# Altium footprint library 5078R-100.PcbLib: 1 footprints
Each footprint in its own frame and in the unit in brackets; x right, y up, seen from the top. Pads: shape width x height; smd on the part's side, far side on the other; paste and mask are expansions set on the pad; w line width, h text height; cw(c..) or ccw(c..) is an arc to the next point about the centre after c.
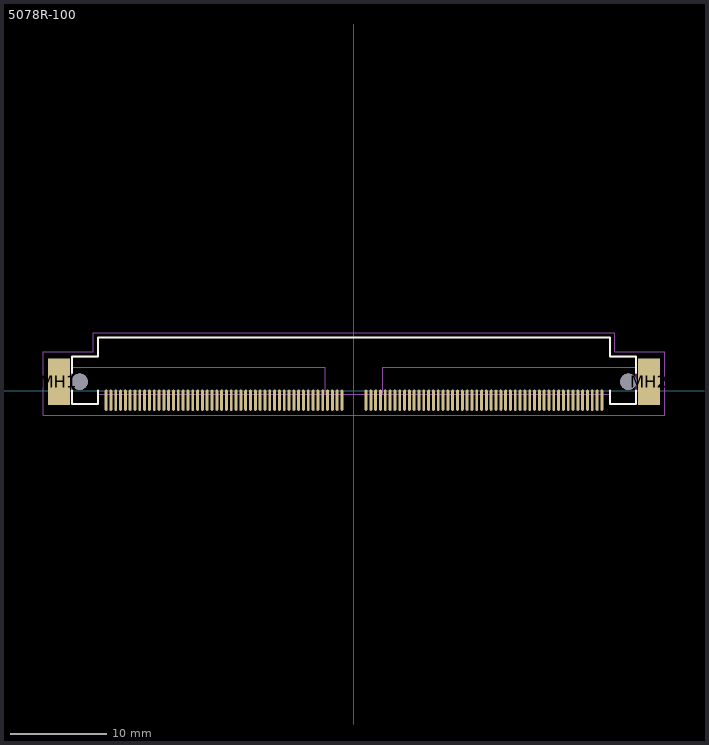
[diagram p0: the footprint, top view; thin cyan lines are the x and y axes]

## 5078R-100 [mm] "5078 Series Receptacle (29 5078 100 500 861+)"
height 5
pads (157):
  oval 0.3x2.2 smd: 1(-25.75,-0.962) 1(-25.75,-0.962) 2(-25.25,-0.962) 2(-25.25,-0.962) 3(-24.75,-0.962) 3(-24.75,-0.962) 4(-24.25,-0.962) 4(-24.25,-0.962) 5(-23.75,-0.962) 5(-23.75,-0.962) 6(-23.25,-0.962) 6(-23.25,-0.962) 7(-22.75,-0.962) 7(-22.75,-0.962) 8(-22.25,-0.962) 8(-22.25,-0.962) 9(-21.75,-0.962) 9(-21.75,-0.962) 10(-21.25,-0.962) 10(-21.25,-0.962) 11(-20.75,-0.962) 11(-20.75,-0.962) 12(-20.25,-0.962) 12(-20.25,-0.962) 13(-19.75,-0.962) 13(-19.75,-0.962) 14(-19.25,-0.962) 14(-19.25,-0.962) 15(-18.75,-0.962) 15(-18.75,-0.962) 16(-18.25,-0.962) 16(-18.25,-0.962) 17(-17.75,-0.962) 17(-17.75,-0.962) 18(-17.25,-0.962) 18(-17.25,-0.962) 19(-16.75,-0.962) 19(-16.75,-0.962) 20(-16.25,-0.962) 20(-16.25,-0.962) 21(-15.75,-0.962) 21(-15.75,-0.962) 22(-15.25,-0.962) 22(-15.25,-0.962) 23(-14.75,-0.962) 23(-14.75,-0.962) 24(-14.25,-0.962) 24(-14.25,-0.962) 25(-13.75,-0.962) 25(-13.75,-0.962) 26(-13.25,-0.962) 26(-13.25,-0.962) 27(-12.75,-0.962) 27(-12.75,-0.962) 28(-12.25,-0.962) 28(-12.25,-0.962) 29(-11.75,-0.962) 29(-11.75,-0.962) 30(-11.25,-0.962) 30(-11.25,-0.962) 31(-10.75,-0.962) 31(-10.75,-0.962) 32(-10.25,-0.962) 32(-10.25,-0.962) 33(-9.75,-0.962) 33(-9.75,-0.962) 34(-9.25,-0.962) 34(-9.25,-0.962) 35(-8.75,-0.962) 35(-8.75,-0.962) 36(-8.25,-0.962) 36(-8.25,-0.962) 37(-7.75,-0.962) 37(-7.75,-0.962) 38(-7.25,-0.962) 38(-7.25,-0.962) 39(-6.75,-0.962) 39(-6.75,-0.962) 40(-6.25,-0.962) 40(-6.25,-0.962) 41(-5.75,-0.962) 41(-5.75,-0.962) 42(-5.25,-0.962) 42(-5.25,-0.962) 43(-4.75,-0.962) 43(-4.75,-0.962) 44(-4.25,-0.962) 44(-4.25,-0.962) 45(-3.75,-0.962) 45(-3.75,-0.962) 46(-3.25,-0.962) 46(-3.25,-0.962) 47(-2.75,-0.962) 47(-2.75,-0.962) 48(-2.25,-0.962) 48(-2.25,-0.962) 49(-1.75,-0.962) 49(-1.75,-0.962) 50(-1.25,-0.962) 50(-1.25,-0.962) 51(1.25,-0.962) 51(1.25,-0.962) 52(1.75,-0.962) 52(1.75,-0.962) 53(2.25,-0.962) 53(2.25,-0.962) 54(2.75,-0.962) 55(3.25,-0.962) 56(3.75,-0.962) 57(4.25,-0.962) 58(4.75,-0.962) 59(5.25,-0.962) 60(5.75,-0.962) 61(6.25,-0.962) 62(6.75,-0.962) 63(7.25,-0.962) 64(7.75,-0.962) 65(8.25,-0.962) 66(8.75,-0.962) 67(9.25,-0.962) 68(9.75,-0.962) 69(10.25,-0.962) 70(10.75,-0.962) 71(11.25,-0.962) 72(11.75,-0.962) 73(12.25,-0.962) 74(12.75,-0.962) 75(13.25,-0.962) 76(13.75,-0.962) 77(14.25,-0.962) 78(14.75,-0.962) 79(15.25,-0.962) 80(15.75,-0.962) 81(16.25,-0.962) 82(16.75,-0.962) 83(17.25,-0.962) 84(17.75,-0.962) 85(18.25,-0.962) 86(18.75,-0.962) 87(19.25,-0.962) 88(19.75,-0.962) 89(20.25,-0.962) 90(20.75,-0.962) 91(21.25,-0.962) 92(21.75,-0.962) 93(22.25,-0.962) 94(22.75,-0.962) 95(23.25,-0.962) 96(23.75,-0.962) 97(24.25,-0.962) 98(24.75,-0.962) 99(25.25,-0.962) 100(25.75,-0.962)
  rect 2.3x4.8 smd: MH1(-30.65,0.962) MH2(30.65,0.962)
  round 1.7 hole 1.7 unplated: ""(-28.5,0.962) ""(28.5,0.962)
Top Overlay:
  lines w0.2: -29.3,0.063 -29.3,-1.337 -26.6,-1.337 -26.6,0.063 ; -29.3,1.863 -29.3,3.363 -29.3,3.563 -26.6,3.563 -26.6,5.563 26.6,5.563 26.6,3.563 29.3,3.563 29.3,3.363 29.3,1.863 ; 26.6,0.063 26.6,-1.337 29.3,-1.337 29.3,0.063
Mechanical 13:
  lines w0.1: -29.3,2.463 -3,2.463 -3,-0.337 ; 3,-0.337 3,2.463 29.3,2.463 ; -29.3,-1.337 -29.3,3.563 -26.6,3.563 -26.6,5.563 26.6,5.563 26.6,3.563 29.3,3.563 29.3,-1.337 26.6,-1.337 26.6,-0.337 -26.6,-0.337 -26.6,-1.337 -29.3,-1.337
Mechanical 15:
  lines w0.05: -32.3,-2.537 26.4,-2.537 32.3,-2.537 32.3,4.063 27.1,4.063 27.1,6.063 -27.1,6.063 -27.1,4.063 -32.3,4.063 -32.3,-2.537
3D body: height 5, standoff 0, extent 3.001,-1.337 29.299,2.462
3D body: height 5, standoff 0, extent -29.299,-1.337 -3.001,2.462
3D body: height 4.3, standoff 0, extent -29.299,-0.337 29.299,5.562